# EAGLE library part LSM6DS33 (library LinnesLab-Sensors)
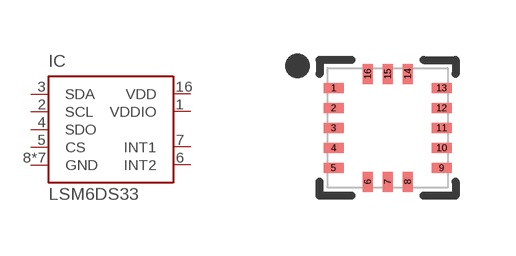
[diagram p18: symbol with the pads of LGA16_3X3MM; footprint LGA16_3X3MM]

Designator prefix IC

## LSM6DS33  [LGA16_3X3MM]
1  VDDIO  pwr
2  SCL
3  SDA
4  SDO
5  CS  in
6  INT2  out
7  INT1  out
8  GND  pwr
9  GND  pwr
10  GND  pwr
11  GND  pwr
12  GND  pwr
13  GND  pwr
15  GND  pwr
16  VDD  pwr

## Footprint LGA16_3X3MM (pad centres in mm)
smd 0.5 x 0.25: 1 -1.35,1; 2 -1.35,0.5; 3 -1.35,0; 4 -1.35,-0.5; 5 -1.35,-1; 9 1.35,-1; 10 1.35,-0.5; 11 1.35,0; 12 1.35,0.5; 13 1.35,1
smd 0.25 x 0.5: 6 -0.5,-1.35; 7 0,-1.35; 8 0.5,-1.35; 14 0.5,1.35; 15 0,1.35; 16 -0.5,1.35